# EAGLE library part IRF7322D1PBF (library rfid)
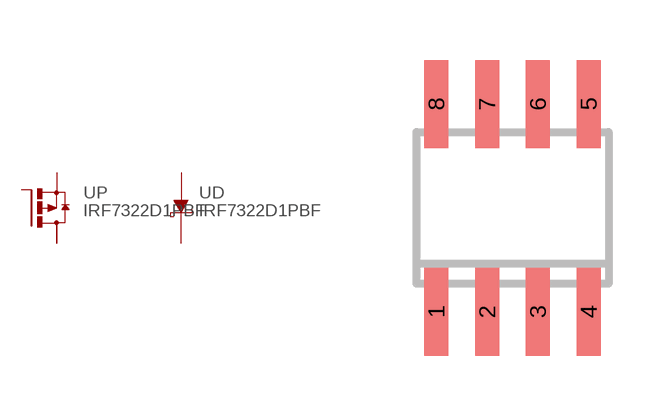
[diagram p3: symbol with the pads of SO-08; footprint SO-08]

Designator prefix U; gates D=SCHOTTKY-DIODE-2A2C P=MOSFET_P-2D

## IRF7322D1PBF  [SO-08]
1  D:A  pas
2  D:A  pas
3  P:S  pas
4  P:G  pas
5  P:D  pas
6  P:D  pas
7  D:C  pas
8  D:C  pas

## Footprint SO-08 (pad centres in mm)
Small Outline Narrow Plastic Gull Wing 150-mil body, package type SN
smd 0.6 x 2.2: 1 -1.905,-2.6; 2 -0.635,-2.6; 3 0.635,-2.6; 4 1.905,-2.6; 5 1.905,2.6; 6 0.635,2.6; 7 -0.635,2.6; 8 -1.905,2.6